# EAGLE library part SCSI-68-NI_673X (library 1A-meinLib)
National Instruments High-speed Voltage Output, NI 673x
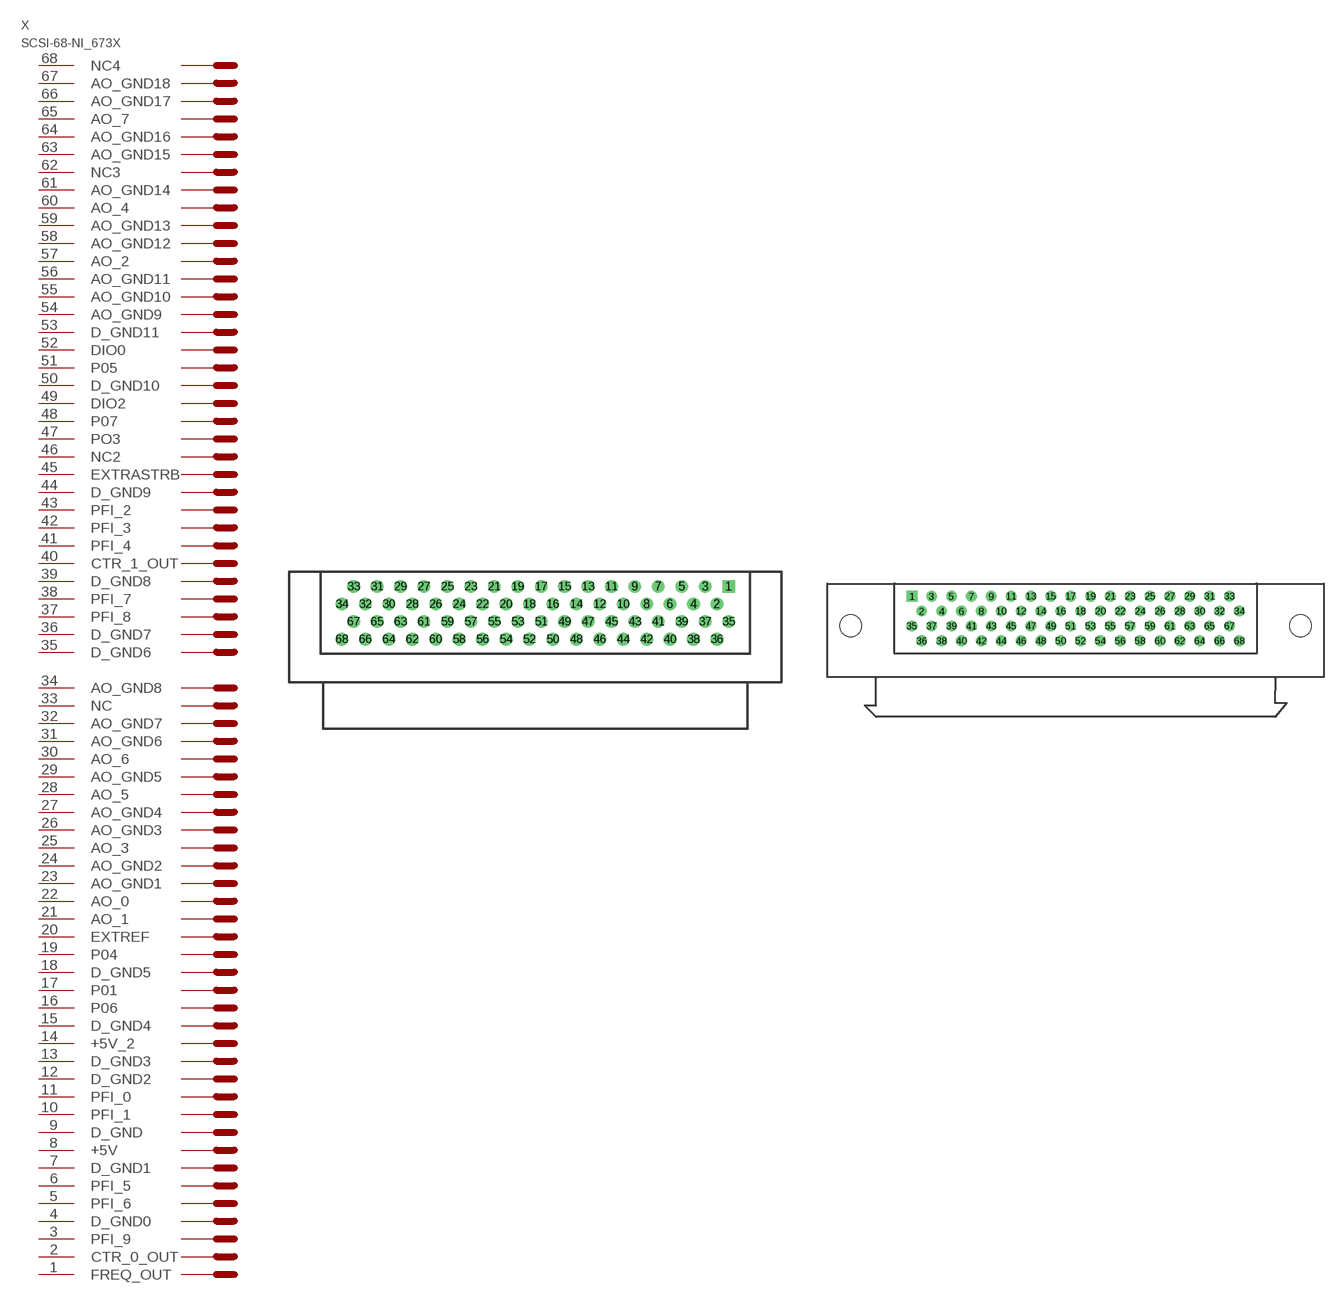
[diagram p104: symbol with the pads of SCSI_68_BUCHSE; footprints SCSI_68_BUCHSE, SCSI_68_STECKER]

Designator prefix X

## SCSI-68-NI_673X  [SCSI_68_BUCHSE]
1  FREQ_OUT  pas
2  CTR_0_OUT  pas
3  PFI_9  pas
4  D_GND0  pas
5  PFI_6  pas
6  PFI_5  pas
7  D_GND1  pas
8  +5V  pas
9  D_GND  pas
10  PFI_1  pas
11  PFI_0  pas
12  D_GND2  pas
13  D_GND3  pas
14  +5V_2  pas
15  D_GND4  pas
16  P06  pas
17  P01  pas
18  D_GND5  pas
19  P04  pas
20  EXTREF  pas
21  AO_1  pas
22  AO_0  pas
23  AO_GND1  pas
24  AO_GND2  pas
25  AO_3  pas
26  AO_GND3  pas
27  AO_GND4  pas
28  AO_5  pas
29  AO_GND5  pas
30  AO_6  pas
31  AO_GND6  pas
32  AO_GND7  pas
33  NC  pas
34  AO_GND8  pas
35  D_GND6  pas
36  D_GND7  pas
37  PFI_8  pas
38  PFI_7  pas
39  D_GND8  pas
40  CTR_1_OUT  pas
41  PFI_4  pas
42  PFI_3  pas
43  PFI_2  pas
44  D_GND9  pas
45  EXTRASTRB  pas
46  NC2  pas
47  PO3  pas
48  P07  pas
49  DIO2  pas
50  D_GND10  pas
51  P05  pas
52  DIO0  pas
53  D_GND11  pas
54  AO_GND9  pas
55  AO_GND10  pas
56  AO_GND11  pas
57  AO_2  pas
58  AO_GND12  pas
59  AO_GND13  pas
60  AO_4  pas
61  AO_GND14  pas
62  NC3  pas
63  AO_GND15  pas
64  AO_GND16  pas
65  AO_7  pas
66  AO_GND17  pas
67  AO_GND18  pas
68  NC4  pas

## SCSI-68-NI_673XSCSI-68-STECKER  [SCSI_68_STECKER]
1  FREQ_OUT  pas
2  CTR_0_OUT  pas
3  PFI_9  pas
4  D_GND  pas
5  PFI_6  pas
6  PFI_5  pas
7  D_GND0  pas
8  +5V  pas
9  D_GND1  pas
10  PFI_1  pas
11  PFI_0  pas
12  D_GND2  pas
13  D_GND3  pas
14  +5V_2  pas
15  D_GND4  pas
16  P06  pas
17  P01  pas
18  D_GND5  pas
19  P04  pas
20  EXTREF  pas
21  AO_1  pas
22  AO_0  pas
23  AO_GND1  pas
24  AO_GND2  pas
25  AO_3  pas
26  AO_GND3  pas
27  AO_GND4  pas
28  AO_5  pas
29  AO_GND5  pas
30  AO_6  pas
31  AO_GND6  pas
32  AO_GND7  pas
33  NC  pas
34  AO_GND8  pas
35  D_GND6  pas
36  D_GND7  pas
37  PFI_8  pas
38  PFI_7  pas
39  D_GND8  pas
40  CTR_1_OUT  pas
41  PFI_4  pas
42  PFI_3  pas
43  PFI_2  pas
44  D_GND9  pas
45  EXTRASTRB  pas
46  NC2  pas
47  PO3  pas
48  P07  pas
49  DIO2  pas
50  D_GND10  pas
51  P05  pas
52  DIO0  pas
53  D_GND11  pas
54  AO_GND9  pas
55  AO_GND10  pas
56  AO_GND11  pas
57  AO_2  pas
58  AO_GND12  pas
59  AO_GND13  pas
60  AO_4  pas
61  AO_GND14  pas
62  NC3  pas
63  AO_GND15  pas
64  AO_GND16  pas
65  AO_7  pas
66  AO_GND17  pas
67  AO_GND18  pas
68  NC4  pas

## Footprint SCSI_68_BUCHSE (pad centres in mm)
drill 0.864 square: 1 20.955,2.54
drill 0.864 round: 2 19.685,0.635; 3 18.415,2.54; 4 17.145,0.635; 5 15.875,2.54; 6 14.605,0.635; 7 13.335,2.54; 8 12.065,0.635; 9 10.795,2.54; 10 9.525,0.635; 11 8.255,2.54; 12 6.985,0.635; 13 5.715,2.54; 14 4.445,0.635; 15 3.175,2.54; 16 1.905,0.635; 17 0.635,2.54; 18 -0.635,0.635; 19 -1.905,2.54; 20 -3.175,0.635; 21 -4.445,2.54; 22 -5.715,0.635; 23 -6.985,2.54; 24 -8.255,0.635; 25 -9.525,2.54; 26 -10.795,0.635; 27 -12.065,2.54; 28 -13.335,0.635; 29 -14.605,2.54; 30 -15.875,0.635; 31 -17.145,2.54; 32 -18.415,0.635; 33 -19.685,2.54; 34 -20.955,0.635; 35 20.955,-1.27; 36 19.685,-3.175; 37 18.415,-1.27; 38 17.145,-3.175; 39 15.875,-1.27; 40 14.605,-3.175; 41 13.335,-1.27; 42 12.065,-3.175; 43 10.795,-1.27; 44 9.525,-3.175; 45 8.255,-1.27; 46 6.985,-3.175; 47 5.715,-1.27; 48 4.445,-3.175; 49 3.175,-1.27; 50 1.905,-3.175; 51 0.635,-1.27; 52 -0.635,-3.175; 53 -1.905,-1.27; 54 -3.175,-3.175; 55 -4.445,-1.27; 56 -5.715,-3.175; 57 -6.985,-1.27; 58 -8.255,-3.175; 59 -9.525,-1.27; 60 -10.795,-3.175; 61 -12.065,-1.27; 62 -13.335,-3.175; 63 -14.605,-1.27; 64 -15.875,-3.175; 65 -17.145,-1.27; 66 -18.415,-3.175; 67 -19.685,-1.27; 68 -20.955,-3.175

## Footprint SCSI_68_STECKER (pad centres in mm)
drill 0.864 square: 1 -20.955,3.81
drill 0.864 round: 2 -19.685,1.905; 3 -18.415,3.81; 4 -17.145,1.905; 5 -15.875,3.81; 6 -14.605,1.905; 7 -13.335,3.81; 8 -12.065,1.905; 9 -10.795,3.81; 10 -9.525,1.905; 11 -8.255,3.81; 12 -6.985,1.905; 13 -5.715,3.81; 14 -4.445,1.905; 15 -3.175,3.81; 16 -1.905,1.905; 17 -0.635,3.81; 18 0.635,1.905; 19 1.905,3.81; 20 3.175,1.905; 21 4.445,3.81; 22 5.715,1.905; 23 6.985,3.81; 24 8.255,1.905; 25 9.525,3.81; 26 10.795,1.905; 27 12.065,3.81; 28 13.335,1.905; 29 14.605,3.81; 30 15.875,1.905; 31 17.145,3.81; 32 18.415,1.905; 33 19.685,3.81; 34 20.955,1.905; 35 -20.955,0; 36 -19.685,-1.905; 37 -18.415,0; 38 -17.145,-1.905; 39 -15.875,0; 40 -14.605,-1.905; 41 -13.335,0; 42 -12.065,-1.905; 43 -10.795,0; 44 -9.525,-1.905; 45 -8.255,0; 46 -6.985,-1.905; 47 -5.715,0; 48 -4.445,-1.905; 49 -3.175,0; 50 -1.905,-1.905; 51 -0.635,0; 52 0.635,-1.905; 53 1.905,0; 54 3.175,-1.905; 55 4.445,0; 56 5.715,-1.905; 57 6.985,0; 58 8.255,-1.905; 59 9.525,0; 60 10.795,-1.905; 61 12.065,0; 62 13.335,-1.905; 63 14.605,0; 64 15.875,-1.905; 65 17.145,0; 66 18.415,-1.905; 67 19.685,0; 68 20.955,-1.905
hole 2.8 at -28.775,0
hole 2.8 at 28.775,0